# EAGLE library part 20021321-00006 (library all-connectors)
20021321-00006 Amphenol FCI Minitek127® Board to Board connectors, PCB mounted Receptacle, Vertical, Surface Mount, Double Row, 6 Positions, 1.27mm (0.05inch) pitch
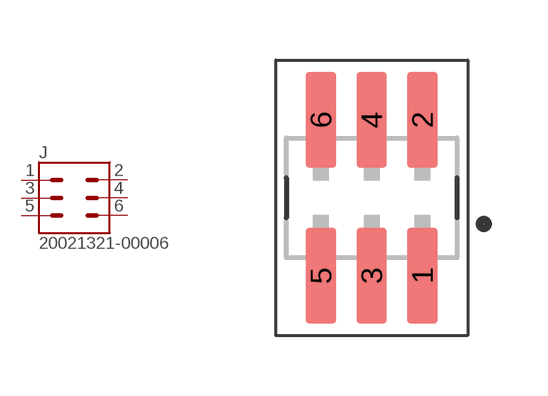
[diagram p5: symbol with the pads of FE03-2_SMD_1.27MM; footprint FE03-2_SMD_1.27MM]

Designator prefix J

## 20021321-00006  [FE03-2_SMD_1.27MM]
1  1  pas
2  2  pas
3  3  pas
4  4  pas
5  5  pas
6  6  pas

## Footprint FE03-2_SMD_1.27MM (pad centres in mm)
smd 0.76 x 2.4: 1 1.27,-1.95; 2 1.27,1.95; 3 0,-1.95; 4 0,1.95; 5 -1.27,-1.95; 6 -1.27,1.95